# Altium integrated library Degson.IntLib: 2 symbols
Pins are listed as number, name and electrical type; pins without a type are passive.

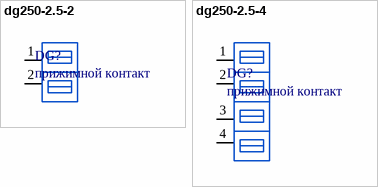
[diagram p0: symbols dg250-2.5-2 to dg250-2.5-4]

## dg250-2.5-2
designator DG?, comment прижимной контакт
footprint dg250-2.5-2
pins: 1, 2

## dg250-2.5-4
designator DG?, comment прижимной контакт
footprint dg250-2.5-4
pins: 1, 2, 3, 4